# Altium footprint library QTE-040-01-L-D-A.PcbLib: 1 footprints
Each footprint in its own frame and in the unit in brackets; x right, y up, seen from the top. Pads: shape width x height; smd on the part's side, far side on the other; paste and mask are expansions set on the pad; w line width, h text height; cw(c..) or ccw(c..) is an arc to the next point about the centre after c.
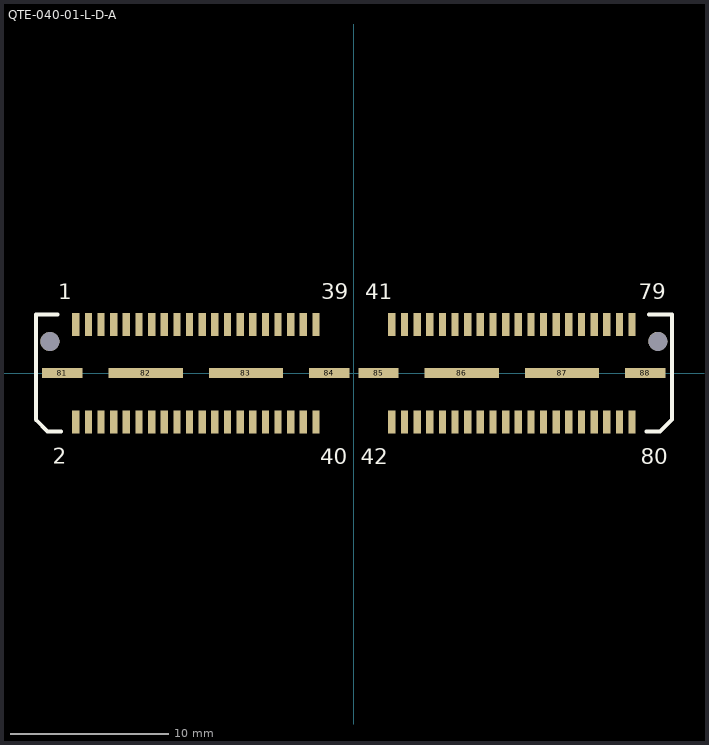
[diagram p0: the footprint, top view; thin cyan lines are the x and y axes]

## QTE-040-01-L-D-A [mm] "CONN HEADER 80POS 0.8MM SMT"
height 8
pads (90):
  rect 0.46x1.45 smd: 1(-17.6,3.1) 2(-17.6,-3.08) 3(-16.8,3.1) 4(-16.8,-3.08) 5(-16,3.1) 6(-16,-3.08) 7(-15.2,3.1) 8(-15.2,-3.08) 9(-14.4,3.1) 10(-14.4,-3.08) 11(-13.6,3.1) 12(-13.6,-3.08) 13(-12.8,3.1) 14(-12.8,-3.08) 15(-12,3.1) 16(-12,-3.08) 17(-11.2,3.1) 18(-11.2,-3.08) 19(-10.4,3.1) 20(-10.4,-3.08) 21(-9.6,3.1) 22(-9.6,-3.08) 23(-8.8,3.1) 24(-8.8,-3.08) 25(-8,3.1) 26(-8,-3.08) 27(-7.2,3.1) 28(-7.2,-3.08) 29(-6.4,3.1) 30(-6.4,-3.08) 31(-5.6,3.1) 32(-5.6,-3.08) 33(-4.8,3.1) 34(-4.8,-3.08) 35(-4,3.1) 36(-4,-3.08) 37(-3.2,3.1) 38(-3.2,-3.08) 39(-2.4,3.1) 40(-2.4,-3.08) 41(2.4,3.1) 42(2.4,-3.08) 43(3.2,3.1) 44(3.2,-3.08) 45(4,3.1) 46(4,-3.08) 47(4.8,3.1) 48(4.8,-3.08) 49(5.6,3.1) 50(5.6,-3.08) 51(6.4,3.1) 52(6.4,-3.08) 53(7.2,3.1) 54(7.2,-3.08) 55(8,3.1) 56(8,-3.08) 57(8.8,3.1) 58(8.8,-3.08) 59(9.6,3.1) 60(9.6,-3.08) 61(10.4,3.1) 62(10.4,-3.08) 63(11.2,3.1) 64(11.2,-3.08) 65(12,3.1) 66(12,-3.08) 67(12.8,3.1) 68(12.8,-3.08) 69(13.6,3.1) 70(13.6,-3.08) 71(14.4,3.1) 72(14.4,-3.08) 73(15.2,3.1) 74(15.2,-3.08) 75(16,3.1) 76(16,-3.08) 77(16.8,3.1) 78(16.8,-3.08) 79(17.6,3.1) 80(17.6,-3.08)
  rect 2.54x0.64 smd: 81(-18.46,0.01) 84(-1.56,0.01) 85(1.56,0.01) 88(18.44,0.01)
  rect 4.7x0.64 smd: 82(-13.18,0.01) 83(-6.83,0.01) 86(6.82,0.01) 87(13.17,0.01)
  round 1.2 hole 1.2 unplated paste+0 mask+0: ""(-19.24,2.01) ""(19.23,2.02)
Top Overlay:
  lines w0.254: -18.77,3.72 -20.13,3.72 -20.13,-2.94 -19.38,-3.69 -18.525,-3.69 ; 18.53,-3.68 19.38,-3.68 20.14,-2.92 20.14,3.72 18.66,3.72
  text "39" at -2.08,4.67 h1
  text "40" at -2.14,-5.77 h1
  text "2" at -19.05,-5.74 h1
  text "1" at -18.7,4.67 h1
  text "41" at 0.72,4.67 h1
  text "42" at 0.44,-5.76 h1
  text "79" at 18.04,4.68 h1
  text "80" at 18.16,-5.76 h1
3D body "QTE-040-01-L-D-A.stp": height 4.26, standoff -0.71, extent -20.003,-3.546 20.002,3.566